# Altium schematic symbol library AS1115-BSST.SchLib: 1 symbol
Pins are listed as number, name and electrical type; pins without a type are passive.

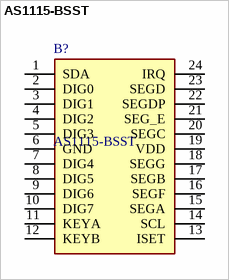
[diagram p0: symbol AS1115-BSST]

## AS1115-BSST
designator B?
AS1115 LED Driver IC 64LED matrix driver with 16keys; Manufacturer_Name: ams OSRAM; Geometry.Height: 1.75mm; Farnell Part Number: *; Farnell Price/Stock: *; Manufacturer_Part_Number: AS1115-BSST; Datasheet Link: https://datasheet.datasheetarchive.com/originals/distributors/Datasheets-SFU1/DSASFU10002655.pdf
footprint SOP64P600X175-24N
pins: 1 SDA, 2 DIG0, 3 DIG1, 4 DIG2, 5 DIG3, 6 GND, 7 DIG4, 8 DIG5, 9 DIG6, 10 DIG7, 11 KEYA, 12 KEYB, 13 ISET, 14 SCL, 15 SEGA, 16 SEGF, 17 SEGB, 18 SEGG, 19 VDD, 20 SEGC, 21 SEG_E, 22 SEGDP, 23 SEGD, 24 IRQ